# EAGLE library part 691412120006 (library Wurth_Terminal_Blocks_Connectors_rev15d)
WR-TBL Serie 412 - 3.5mm Screwless 45° Entry Grey - 1.5mm2 Wires, 6 Pins
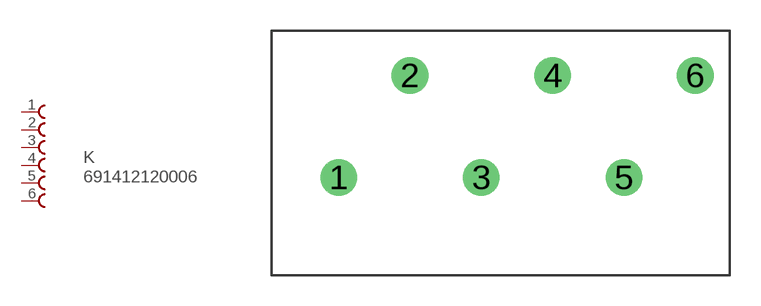
[diagram p213: symbol with the pads of 691412120006; footprint 691412120006]

Designator prefix K

## 691412120006  [691412120006]
1  1  pas
2  2  pas
3  3  pas
4  4  pas
5  5  pas
6  6  pas

## Footprint 691412120006 (pad centres in mm)
WR-TBL Serie 412 - 3.5mm Screwless 45° Entry Grey - 1.5mm2 Wires, 6 Pins
drill 1.2: 1 -13.97,0; 2 -10.47,5; 3 -6.97,0; 4 -3.47,5; 5 0.03,0; 6 3.53,5